# Altium schematic symbol library CSD18542KCS.SchLib: 1 symbol
Pins are listed as number, name and electrical type; pins without a type are passive.

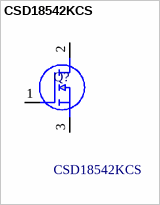
[diagram p0: symbol CSD18542KCS]

## CSD18542KCS
designator Q?
CSD18542KCS 60-V N-Channel NexFET&#153; Power MOSFET; Manufacturer_Name: Texas Instruments; Geometry.Height: 4.7mm; Mouser Part Number: 595-CSD18542KCS; Mouser Price/Stock: https://www.mouser.co.uk/ProductDetail/Texas-Instruments/CSD18542KCS?qs=sICFeol8QWE7Rbjncdrc5g%3D%3D; Manufacturer_Part_Number: CSD18542KCS; Datasheet Link: http://www.ti.com/lit/gpn/csd18542kcs
footprint TO254P470X1016X2016-3P
pins: 1 G, 2 D, 3 S